# Altium schematic symbol library LMZ14202H.SchLib: 2 symbols
Pins are listed as number, name and electrical type; pins without a type are passive.

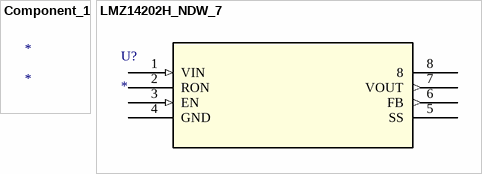
[diagram p0: symbols Component_1 to LMZ14202H_NDW_7]

## Component_1
designator *

## LMZ14202H_NDW_7
designator U?
Imported; Manufacturer: Texas Instruments; Manufacturer_Part_Number: lmz14202h_ndw_7; basePN: LMZ14202; NSC_PackageReference: TZA07A; DatasheetURL: http://www.ti.com/lit/ds/symlink/lmz14202h.pdf; Vendor: Texas Instruments; Value: Value; Type: Type; RefDes: RefDes
footprint TZA07A
pins: 1 VIN (in), 2 RON, 3 EN (in), 4 GND (power), 5 SS, 6 FB (out), 7 VOUT (out), 8